# Altium schematic symbol library XTAL_1-3-4.SchLib: 1 symbol
Pins are listed as number, name and electrical type; pins without a type are passive.

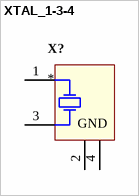
[diagram p0: symbol XTAL_1-3-4]

## XTAL_1-3-4
designator X?
pins: 1 X1, 2 GND, 3 X2, 4 GND